# EAGLE library part NAL (library relay)
RELAY
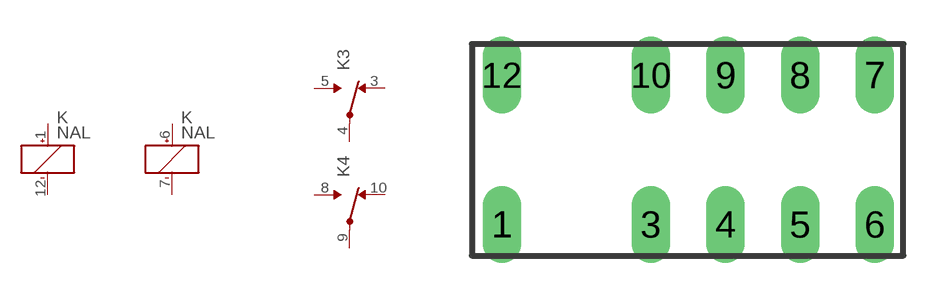
[diagram p31: symbol with the pads of NAL; footprint NAL]

Designator prefix K; gates 1=K+- 2=K+- 3=U 4=U

## NAL  [NAL]
1  1:+  pas
3  3:NC  pas
4  3:COM  pas
5  3:NO  pas
6  2:+  pas
7  2:-  pas
8  4:NO  pas
9  4:COM  pas
10  4:NC  pas
12  1:-  pas

## Footprint NAL (pad centres in mm)
RELAY dummy long
drill 0.8 long: 1 -6.35,-2.54; 3 -1.27,-2.54; 4 1.27,-2.54; 5 3.81,-2.54; 6 6.35,-2.54; 7 6.35,2.54; 8 3.81,2.54; 9 1.27,2.54; 10 -1.27,2.54; 12 -6.35,2.54